# EAGLE library part PTSM0,5/3-H-2,5-THR-R32 (library con-ptsm)
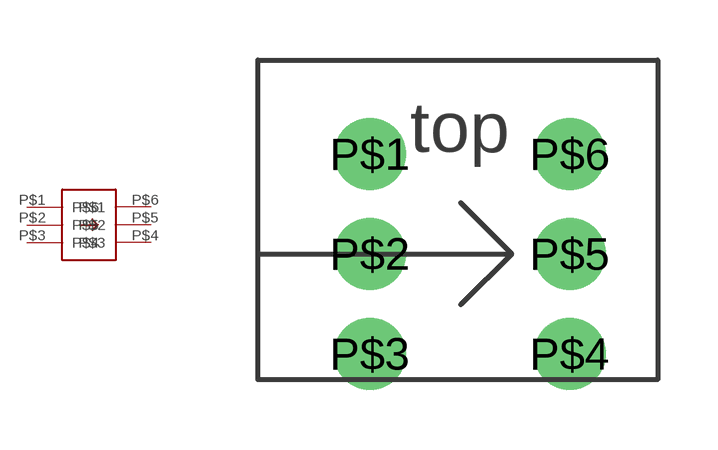
[diagram p0: symbol with the pads of PTSM0,5/3-H-2,5-THR; footprint PTSM0,5/3-H-2,5-THR]

Designator prefix -

## PTSM0,5/3-H-2,5-THR-R32  [PTSM0,5/3-H-2,5-THR]
P$1  P$1
P$2  P$2
P$3  P$3
P$4  P$4
P$5  P$5
P$6  P$6

## Footprint PTSM0,5/3-H-2,5-THR (pad centres in mm)
drill 1.2: P$1 2.8,2.5; P$2 2.8,0; P$3 2.8,-2.5; P$4 7.8,-2.5; P$5 7.8,0; P$6 7.8,2.5